# Altium footprint library TMJ107CB7105KAHR.PcbLib: 4 footprints
Each footprint in its own frame and in the unit in brackets; x right, y up, seen from the top. Pads: shape width x height; smd on the part's side, far side on the other; paste and mask are expansions set on the pad; w line width, h text height; cw(c..) or ccw(c..) is an arc to the next point about the centre after c.
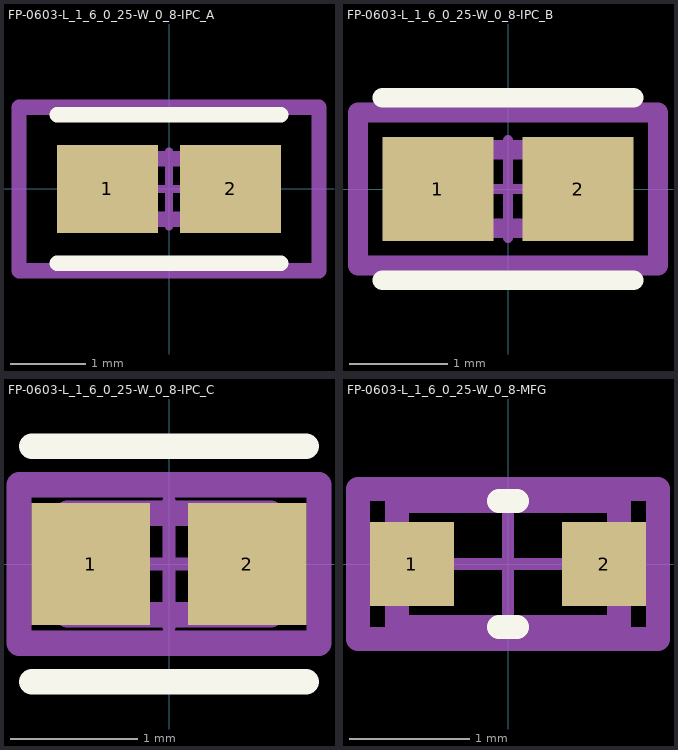
[diagram p0: the footprints below, top view; thin cyan lines are the x and y axes]

## FP-0603-L_1_6_0_25-W_0_8-IPC_A [mm]
pads (2):
  rect 1.331x1.16 smd paste+0 mask+0: 1(-0.814,0) 2(0.814,0)
Top Overlay:
  lines w0.2: -1.48,-0.98 1.48,-0.98 ; -1.48,0.98 1.48,0.98
Top Assembly:
  lines w0.2: -1.98,-1.08 1.98,-1.08 1.98,1.08 -1.98,1.08 -1.98,-1.08
  text ".Designator" at 0,0.187 h1
Top 3D Body:
  lines w0.2: -0.8,-0.4 0.8,-0.4 0.8,0.4 -0.8,0.4 -0.8,-0.4
Top Courtyard:
  lines w0.2: -1.98,-1.08 1.98,-1.08 1.98,1.08 -1.98,1.08 -1.98,-1.08
Top Component Center:
  lines w0.1: -0.5,0 0.5,0 ; 0,-0.5 0,0.5
3D body "Cap_Taiyo_Yuden_TMJ107CB7105KAHR_eec.STEP": height 0.25, standoff 0, extent -1.98,-1.08 1.98,1.08

## FP-0603-L_1_6_0_25-W_0_8-IPC_B [mm]
pads (2):
  rect 1.131x1.06 smd paste+0 mask+0: 1(-0.714,0) 2(0.714,0)
Top Overlay:
  lines w0.2: -1.28,-0.93 1.28,-0.93 ; -1.28,0.93 1.28,0.93
Top Assembly:
  lines w0.2: -1.53,-0.78 1.53,-0.78 1.53,0.78 -1.53,0.78 -1.53,-0.78
  text ".Designator" at 0,0.187 h1
Top 3D Body:
  lines w0.2: -0.8,-0.4 0.8,-0.4 0.8,0.4 -0.8,0.4 -0.8,-0.4
Top Courtyard:
  lines w0.2: -1.53,-0.78 1.53,-0.78 1.53,0.78 -1.53,0.78 -1.53,-0.78
Top Component Center:
  lines w0.1: -0.5,0 0.5,0 ; 0,-0.5 0,0.5
3D body "Cap_Taiyo_Yuden_TMJ107CB7105KAHR_eec.STEP": height 0.25, standoff 0, extent -1.53,-0.78 1.53,0.78

## FP-0603-L_1_6_0_25-W_0_8-IPC_C [mm]
pads (2):
  rect 0.931x0.96 smd paste+0 mask+0: 1(-0.614,0) 2(0.614,0)
Top Overlay:
  lines w0.2: -1.08,-0.925 1.08,-0.925 ; -1.08,0.925 1.08,0.925
Top Assembly:
  lines w0.2: -1.18,-0.625 1.18,-0.625 1.18,0.625 -1.18,0.625 -1.18,-0.625
  text ".Designator" at 0,0.187 h1
Top 3D Body:
  lines w0.2: -0.8,-0.4 0.8,-0.4 0.8,0.4 -0.8,0.4 -0.8,-0.4
Top Courtyard:
  lines w0.2: -1.18,-0.625 1.18,-0.625 1.18,0.625 -1.18,0.625 -1.18,-0.625
Top Component Center:
  lines w0.1: -0.5,0 0.5,0 ; 0,-0.5 0,0.5
3D body "Cap_Taiyo_Yuden_TMJ107CB7105KAHR_eec.STEP": height 0.25, standoff 0, extent -1.18,-0.625 1.18,0.625

## FP-0603-L_1_6_0_25-W_0_8-MFG [mm]
pads (2):
  rect 0.7x0.7 smd paste+0 mask+0: 1(-0.8,0) 2(0.8,0)
Top Overlay:
  lines w0.2: -0.075,-0.525 0.075,-0.525 ; -0.075,0.525 0.075,0.525
Top Assembly:
  lines w0.2: -1.25,-0.625 1.25,-0.625 1.25,0.625 -1.25,0.625 -1.25,-0.625
  text ".Designator" at 0,0.187 h1
Top 3D Body:
  lines w0.2: -0.925,-0.525 0.925,-0.525 0.925,0.525 -0.925,0.525 -0.925,-0.525
Top Courtyard:
  lines w0.2: -1.25,-0.625 1.25,-0.625 1.25,0.625 -1.25,0.625 -1.25,-0.625
Top Component Center:
  lines w0.1: -0.5,0 0.5,0 ; 0,-0.5 0,0.5
3D body "Cap_Taiyo_Yuden_TMJ107CB7105KAHR_eec.STEP": height 0.25, standoff 0, extent -1.25,-0.625 1.25,0.625